# Altium schematic symbol library iCopter_Megadrone.SchLib: 2 symbols
Pins are listed as number, name and electrical type; pins without a type are passive.

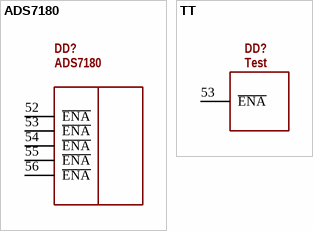
[diagram p0: symbols ADS7180 to TT]

## ADS7180
designator DD?
pins: 52 ~{ENA}, 53 ~{ENA}, 54 ~{ENA}, 55 ~{ENA}, 56 ~{ENA}

## TT
designator DD?, comment Test
pins: 53 ~{ENA}